# Altium footprint library PcbLib5.PcbLib: 1 footprints
Each footprint in its own frame and in the unit in brackets; x right, y up, seen from the top. Pads: shape width x height; smd on the part's side, far side on the other; paste and mask are expansions set on the pad; w line width, h text height; cw(c..) or ccw(c..) is an arc to the next point about the centre after c.
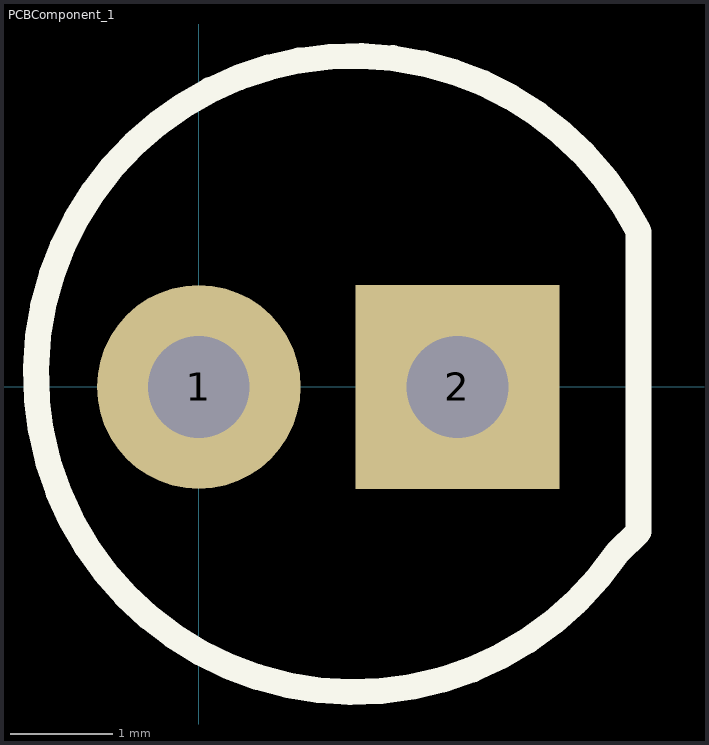
[diagram p0: the footprint, top view; thin cyan lines are the x and y axes]

## PCBComponent_1 [mm]
pads (2):
  round 2 hole 1: 1(0,0)
  rect 2x2 hole 1: 2(2.54,0)
Top Overlay:
  lines w0.254: 4.105,-1.633 cw(c1.524,0.127) 4.318,1.524 4.318,-1.42 4.105,-1.633